# EAGLE library part LAN_BREAKOUT (library Dal_V2)
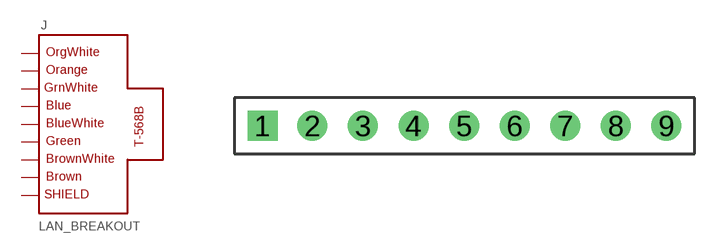
[diagram p15: symbol with the pads of PINHDR_TH_100_1X9; footprint PINHDR_TH_100_1X9]

Designator prefix J

## LAN_BREAKOUT  [PINHDR_TH_100_1X9]
1  P$1  pas
2  P$2  pas
3  P$3  pas
4  P$4  pas
5  P$5  pas
6  P$6  pas
7  P$7  pas
8  P$8  pas
9  P$9  pas

## Footprint PINHDR_TH_100_1X9 (pad centres in mm)
drill 1 square: 1 0.02,0
drill 1: 2 2.52,0; 3 5.06,0; 4 7.6,0; 5 10.14,0; 6 12.68,0; 7 15.22,0; 8 17.76,0; 9 20.3,0